# EAGLE library part LCD-16X2_SMALL (library _MyComponents)
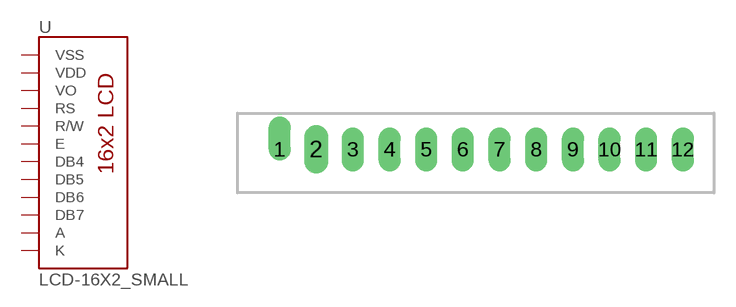
[diagram p5: symbol with the pads of LCD-16X2_SMALL; footprint LCD-16X2_SMALL]

Designator prefix -

## LCD-16X2_SMALL  [LCD-16X2_SMALL]
1  VSS
2  VDD
3  VO
4  RS
5  R/W
6  E
7  DB4
8  DB5
9  DB6
10  DB7
11  A
12  K

## Footprint LCD-16X2_SMALL (pad centres in mm)
LCD 16x2 Small connector for 4 bit control
drill 1.016 offset: 1 -18.03,0.26
drill 1.016 pad 1.676 long: 2 -15.49,0.26
drill 1.016 long: 3 -12.95,0.26; 4 -10.41,0.26; 5 -7.87,0.26; 6 -5.33,0.26; 7 -2.79,0.26; 8 -0.25,0.26; 9 2.29,0.26; 10 4.83,0.26; 11 7.37,0.26; 12 9.91,0.26